# Altium footprint library DKQ0056A.PcbLib: 1 footprints
Each footprint in its own frame and in the unit in brackets; x right, y up, seen from the top. Pads: shape width x height; smd on the part's side, far side on the other; paste and mask are expansions set on the pad; w line width, h text height; cw(c..) or ccw(c..) is an arc to the next point about the centre after c.
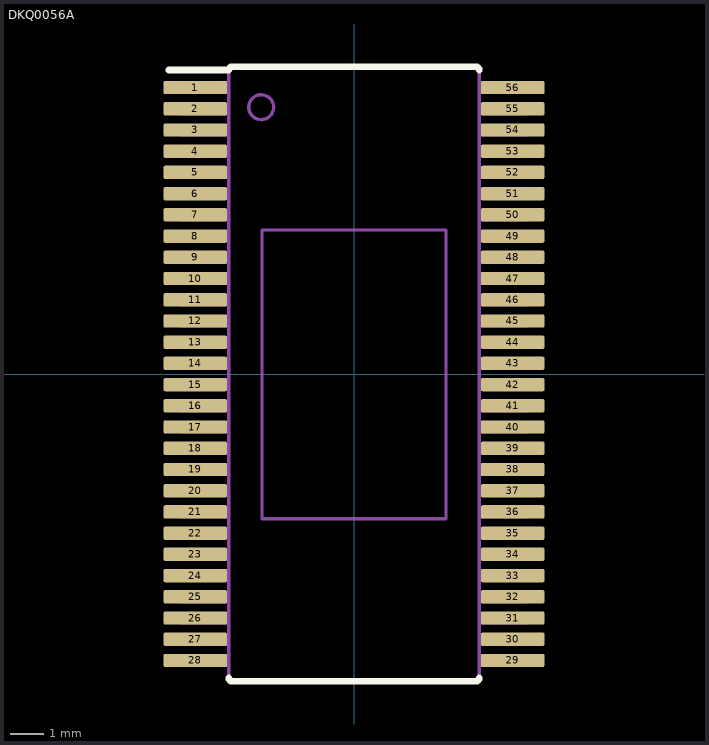
[diagram p0: the footprint, top view; thin cyan lines are the x and y axes]

## DKQ0056A [mm]
pads (56):
  rrect25% 1.9x0.4 smd: 1(-4.75,8.572) 2(-4.75,7.938) 3(-4.75,7.302) 4(-4.75,6.667) 5(-4.75,6.032) 6(-4.75,5.397) 7(-4.75,4.763) 8(-4.75,4.127) 9(-4.75,3.492) 10(-4.75,2.857) 11(-4.75,2.222) 12(-4.75,1.587) 13(-4.75,0.953) 14(-4.75,0.318) 15(-4.75,-0.318) 16(-4.75,-0.953) 17(-4.75,-1.587) 18(-4.75,-2.222) 19(-4.75,-2.857) 20(-4.75,-3.492) 21(-4.75,-4.127) 22(-4.75,-4.763) 23(-4.75,-5.397) 24(-4.75,-6.032) 25(-4.75,-6.667) 26(-4.75,-7.302) 27(-4.75,-7.938) 28(-4.75,-8.572) 29(4.75,-8.572) 30(4.75,-7.938) 31(4.75,-7.302) 32(4.75,-6.667) 33(4.75,-6.032) 34(4.75,-5.397) 35(4.75,-4.763) 36(4.75,-4.127) 37(4.75,-3.492) 38(4.75,-2.857) 39(4.75,-2.222) 40(4.75,-1.587) 41(4.75,-0.953) 42(4.75,-0.318) 43(4.75,0.318) 44(4.75,0.953) 45(4.75,1.587) 46(4.75,2.222) 47(4.75,2.857) 48(4.75,3.492) 49(4.75,4.127) 50(4.75,4.763) 51(4.75,5.397) 52(4.75,6.032) 53(4.75,6.667) 54(4.75,7.302) 55(4.75,7.938) 56(4.75,8.572)
Top Overlay:
  lines w0.2: -5.549,9.099 -3.745,9.099 -3.745,9.099 cw(c-3.643,9.099) -3.745,9.102 cw(c-3.644,9.099) -3.745,9.105 cw(c-3.645,9.099) -3.739,9.134 cw(c-3.646,9.1) -3.664,9.197 cw(c-3.646,9.098) -3.648,9.198 cw(c-3.646,9.097) -3.646,9.199 -3.645,9.199 3.645,9.199 3.646,9.199 cw(c3.646,9.097) 3.648,9.198 cw(c3.646,9.098) 3.652,9.198 cw(c3.646,9.099) 3.681,9.192 cw(c3.646,9.1) 3.743,9.118 cw(c3.645,9.099) 3.745,9.102 cw(c3.643,9.099) 3.745,9.099 3.745,9.099 ; -3.745,-9.099 -3.745,-9.099 ccw(c-3.643,-9.099) -3.745,-9.102 ccw(c-3.644,-9.099) -3.745,-9.105 ccw(c-3.645,-9.099) -3.739,-9.134 ccw(c-3.646,-9.1) -3.664,-9.197 ccw(c-3.646,-9.098) -3.648,-9.198 ccw(c-3.646,-9.097) -3.646,-9.199 -3.645,-9.199 3.645,-9.199 3.646,-9.199 ccw(c3.646,-9.097) 3.648,-9.198 ccw(c3.646,-9.098) 3.652,-9.198 ccw(c3.646,-9.099) 3.681,-9.192 ccw(c3.646,-9.1) 3.743,-9.118 ccw(c3.645,-9.099) 3.745,-9.102 ccw(c3.643,-9.099) 3.745,-9.099 3.745,-9.099
Mechanical 5:
  drawing of 717 lines, arcs and shapes, not listed
  text ".Designator" at -0.5,1.875 h1.02
3D body "DKQ0056A.stp": height 2.32, standoff 0, extent -5.175,-9.207 5.175,9.207